# Altium footprint library FPC_4P_1mm.PcbLib: 1 footprints
Each footprint in its own frame and in the unit in brackets; x right, y up, seen from the top. Pads: shape width x height; smd on the part's side, far side on the other; paste and mask are expansions set on the pad; w line width, h text height; cw(c..) or ccw(c..) is an arc to the next point about the centre after c.
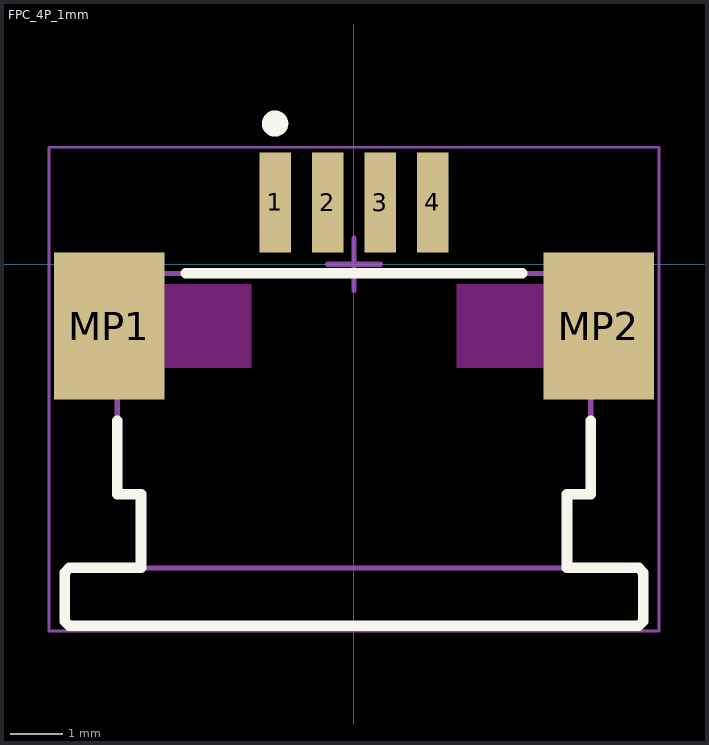
[diagram p0: the footprint, top view; thin cyan lines are the x and y axes]

## FPC_4P_1mm [mm]
pads (6):
  rect 0.6x1.9 smd: 1(-1.5,1.175) 2(-0.5,1.175) 3(0.5,1.175) 4(1.5,1.175)
  rect 2.1x2.8 smd: MP1(-4.65,-1.175) MP2(4.65,-1.175)
Top Overlay:
  circle w0.25: c-1.5,2.675 r0.125
  lines w0.2: -4.5,-2.975 -4.5,-4.375 -4.05,-4.375 -4.05,-5.775 -5.412,-5.775 -5.5,-5.863 -5.5,-6.787 -5.412,-6.875 5.412,-6.875 5.5,-6.787 5.5,-5.863 5.412,-5.775 4.05,-5.775 4.05,-4.375 4.5,-4.375 4.5,-2.975 ; -3.2,-0.175 3.2,-0.175
Keep-Out Layer:
  rectangle: 1.95,-1.975 3.6,-0.375
  rectangle: -3.6,-1.975 -1.95,-0.375
Mechanical 13:
  lines w0.1: -4.05,-5.775 -4.05,-4.375 -4.5,-4.375 -4.5,-0.175 4.5,-0.175 4.5,-4.375 4.05,-4.375 4.05,-5.775 ; -5.5,-6.787 -5.412,-6.875 5.412,-6.875 5.5,-6.787 5.5,-5.863 5.412,-5.775 -5.412,-5.775 -5.5,-5.863 -5.5,-6.787
Mechanical 15:
  lines w0.05: -5.8,-6.975 -5.8,2.225 5.8,2.225 5.8,-6.975 -5.8,-6.975
  lines w0.1: -0.5,0 0.5,0 ; 0,-0.5 0,0.5
3D body "522710479.stp": height 3, standoff 0, extent -5.5,-6.875 5.5,1.825